# EAGLE library part RGB-OSRAM (library led)
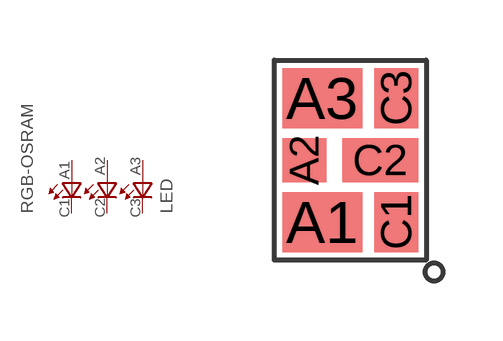
[diagram p23: symbol with the pads of OSRAM-C9TP; footprint OSRAM-C9TP]

Designator prefix LED

## RGB-OSRAM  [OSRAM-C9TP]
A1  A1  pas
A2  A2  pas
A3  A3  pas
C1  C1  pas
C2  C2  pas
C3  C3  pas

## Footprint OSRAM-C9TP (pad centres in mm)
smd 2 x 1.5: A1 -0.7,-1.55; A3 -0.7,1.55
smd 1.1 x 1.1: A2 -1.15,0
smd 1.1 x 1.5: C1 1.15,-1.55; C3 1.15,1.55
smd 1.9 x 1.1: C2 0.75,0